# EAGLE library part STM32F103C (library stm32)
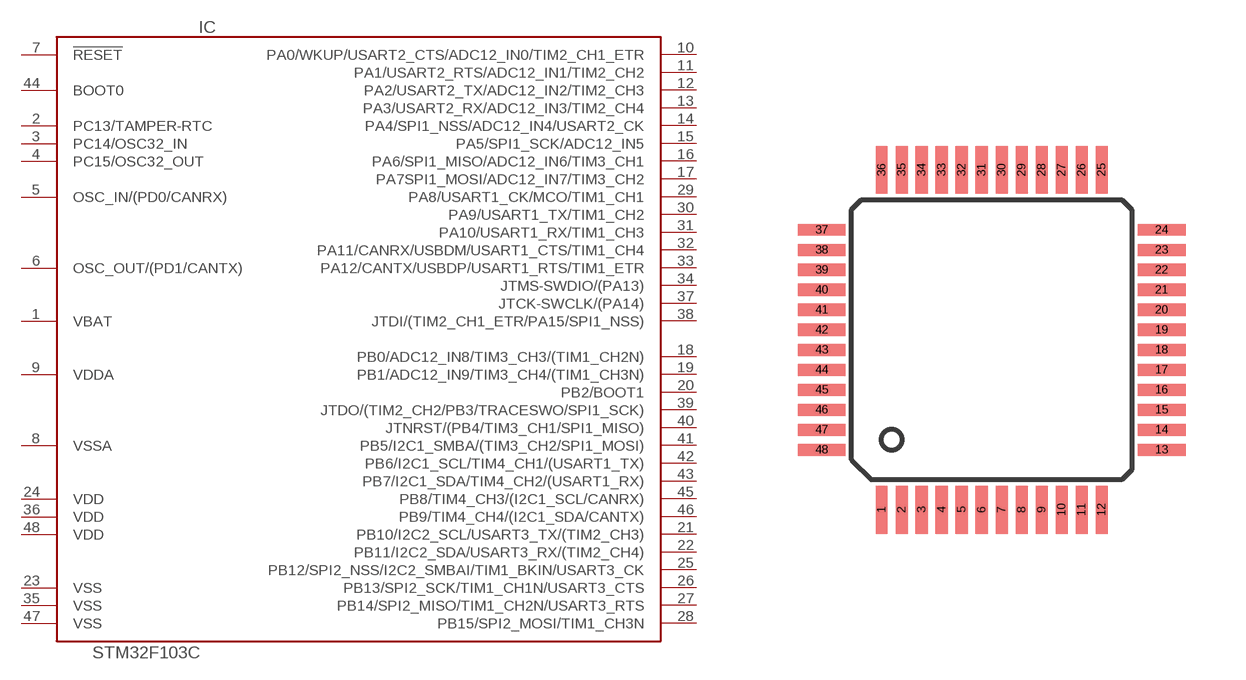
[diagram p5: symbol with the pads of LQFP48; footprint LQFP48]

Designator prefix IC

## STM32F103C4, STM32F103C6, STM32F103C8, STM32F103CB  [LQFP48]
1  VBAT  pwr
2  PC13/TAMPER-RTC
3  PC14/OSC32_IN
4  PC15/OSC32_OUT
5  OSC_IN/(PD0/CANRX)  in
6  OSC_OUT/(PD1/CANTX)  out
7  !RESET  in
8  VSSA  pwr
9  VDDA  pwr
10  PA0/WKUP/USART2_CTS/ADC12_IN0/TIM2_CH1_ETR
11  PA1/USART2_RTS/ADC12_IN1/TIM2_CH2
12  PA2/USART2_TX/ADC12_IN2/TIM2_CH3
13  PA3/USART2_RX/ADC12_IN3/TIM2_CH4
14  PA4/SPI1_NSS/ADC12_IN4/USART2_CK
15  PA5/SPI1_SCK/ADC12_IN5
16  PA6/SPI1_MISO/ADC12_IN6/TIM3_CH1
17  PA7SPI1_MOSI/ADC12_IN7/TIM3_CH2
18  PB0/ADC12_IN8/TIM3_CH3/(TIM1_CH2N)
19  PB1/ADC12_IN9/TIM3_CH4/(TIM1_CH3N)
20  PB2/BOOT1
21  PB10/I2C2_SCL/USART3_TX/(TIM2_CH3)
22  PB11/I2C2_SDA/USART3_RX/(TIM2_CH4)
23  VSS  pwr
24  VDD  pwr
25  PB12/SPI2_NSS/I2C2_SMBAI/TIM1_BKIN/USART3_CK
26  PB13/SPI2_SCK/TIM1_CH1N/USART3_CTS
27  PB14/SPI2_MISO/TIM1_CH2N/USART3_RTS
28  PB15/SPI2_MOSI/TIM1_CH3N
29  PA8/USART1_CK/MCO/TIM1_CH1
30  PA9/USART1_TX/TIM1_CH2
31  PA10/USART1_RX/TIM1_CH3
32  PA11/CANRX/USBDM/USART1_CTS/TIM1_CH4
33  PA12/CANTX/USBDP/USART1_RTS/TIM1_ETR
34  JTMS-SWDIO/(PA13)
35  VSS  pwr
36  VDD  pwr
37  JTCK-SWCLK/(PA14)
38  JTDI/(TIM2_CH1_ETR/PA15/SPI1_NSS)
39  JTDO/(TIM2_CH2/PB3/TRACESWO/SPI1_SCK)
40  JTNRST/(PB4/TIM3_CH1/SPI1_MISO)
41  PB5/I2C1_SMBA/(TIM3_CH2/SPI1_MOSI)
42  PB6/I2C1_SCL/TIM4_CH1/(USART1_TX)
43  PB7/I2C1_SDA/TIM4_CH2/(USART1_RX)
44  BOOT0  in
45  PB8/TIM4_CH3/(I2C1_SCL/CANRX)
46  PB9/TIM4_CH4/(I2C1_SDA/CANTX)
47  VSS  pwr
48  VDD  pwr

## Footprint LQFP48 (pad centres in mm)
smd 0.3 x 1.2: 1 -2.75,-4.25; 2 -2.25,-4.25; 3 -1.75,-4.25; 4 -1.25,-4.25; 5 -0.75,-4.25; 6 -0.25,-4.25; 7 0.25,-4.25; 8 0.75,-4.25; 9 1.25,-4.25; 10 1.75,-4.25; 11 2.25,-4.25; 12 2.75,-4.25; 25 2.75,4.25; 26 2.25,4.25; 27 1.75,4.25; 28 1.25,4.25; 29 0.75,4.25; 30 0.25,4.25; 31 -0.25,4.25; 32 -0.75,4.25; 33 -1.25,4.25; 34 -1.75,4.25; 35 -2.25,4.25; 36 -2.75,4.25
smd 1.2 x 0.3: 13 4.25,-2.75; 14 4.25,-2.25; 15 4.25,-1.75; 16 4.25,-1.25; 17 4.25,-0.75; 18 4.25,-0.25; 19 4.25,0.25; 20 4.25,0.75; 21 4.25,1.25; 22 4.25,1.75; 23 4.25,2.25; 24 4.25,2.75; 37 -4.25,2.75; 38 -4.25,2.25; 39 -4.25,1.75; 40 -4.25,1.25; 41 -4.25,0.75; 42 -4.25,0.25; 43 -4.25,-0.25; 44 -4.25,-0.75; 45 -4.25,-1.25; 46 -4.25,-1.75; 47 -4.25,-2.25; 48 -4.25,-2.75